# Altium schematic symbol library FMMT493.Schlib: 1 symbol
Pins are listed as number, name and electrical type; pins without a type are passive.

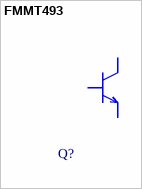
[diagram p0: symbol FMMT493]

## FMMT493
designator Q?
100V 1A NPN
pins: 1 B, 2 E, 3 C